# EAGLE library part TE_EDGECON_26_SOCKET (library Custom_headers)
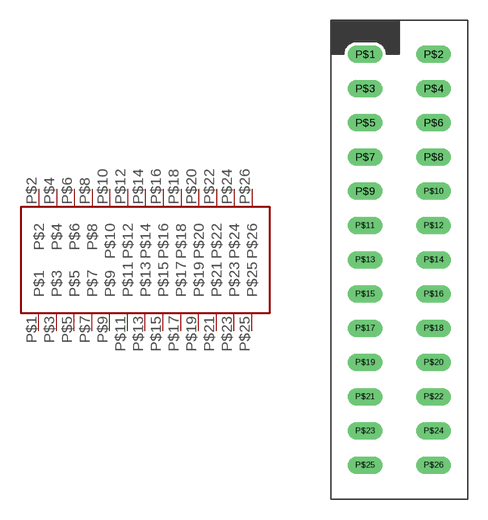
[diagram p8: symbol with the pads of TE_EDGE_26_SOCKET; footprint TE_EDGE_26_SOCKET]

Designator prefix -

## TE_EDGECON_26_SOCKET  [TE_EDGE_26_SOCKET]
P$1  P$1
P$2  P$2
P$3  P$3
P$4  P$4
P$5  P$5
P$6  P$6
P$7  P$7
P$8  P$8
P$9  P$9
P$10  P$10
P$11  P$11
P$12  P$12
P$13  P$13
P$14  P$14
P$15  P$15
P$16  P$16
P$17  P$17
P$18  P$18
P$19  P$19
P$20  P$20
P$21  P$21
P$22  P$22
P$23  P$23
P$24  P$24
P$25  P$25
P$26  P$26

## Footprint TE_EDGE_26_SOCKET (pad centres in mm)
drill 0.8 long: P$1 -2.54,15.24; P$2 2.54,15.24; P$3 -2.54,12.7; P$4 2.54,12.7; P$5 -2.54,10.16; P$6 2.54,10.16; P$7 -2.54,7.62; P$8 2.54,7.62; P$9 -2.54,5.08; P$10 2.54,5.08; P$11 -2.54,2.54; P$12 2.54,2.54; P$13 -2.54,0; P$14 2.54,0; P$15 -2.54,-2.54; P$16 2.54,-2.54; P$17 -2.54,-5.08; P$18 2.54,-5.08; P$19 -2.54,-7.62; P$20 2.54,-7.62; P$21 -2.54,-10.16; P$22 2.54,-10.16; P$23 -2.54,-12.7; P$24 2.54,-12.7; P$25 -2.54,-15.24; P$26 2.54,-15.24